# EAGLE library part MILLI-GRID-38 (library con-molex)
Milli-Grid Pin Header 2.00mm (.079") Pitch
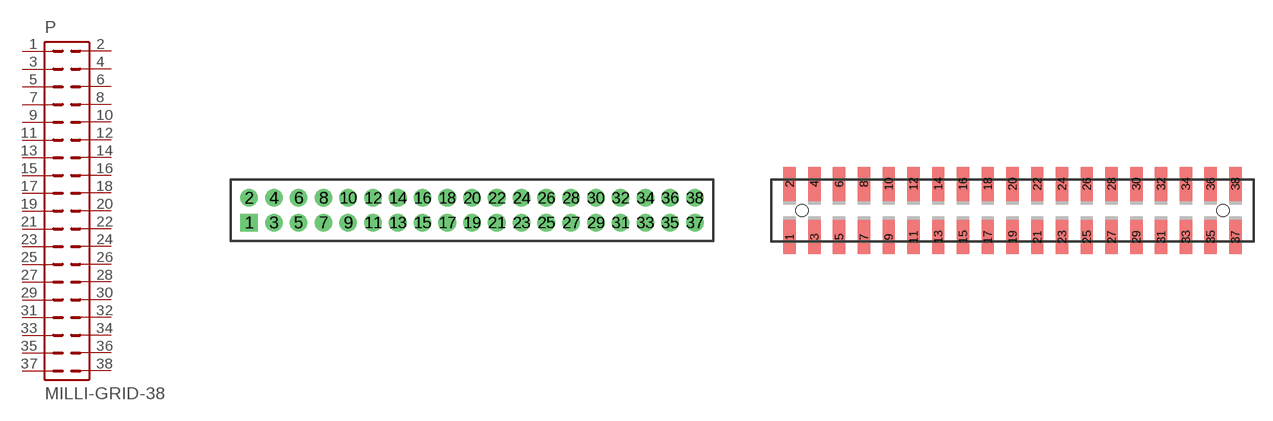
[diagram p67: symbol with the pads of 87758-38; footprints 87758-38, 87759-38]

Designator prefix P

## MILLI-GRID-38-87758  [87758-38]
1  1  pas
2  2  pas
3  3  pas
4  4  pas
5  5  pas
6  6  pas
7  7  pas
8  8  pas
9  9  pas
10  10  pas
11  11  pas
12  12  pas
13  13  pas
14  14  pas
15  15  pas
16  16  pas
17  17  pas
18  18  pas
19  19  pas
20  20  pas
21  21  pas
22  22  pas
23  23  pas
24  24  pas
25  25  pas
26  26  pas
27  27  pas
28  28  pas
29  29  pas
30  30  pas
31  31  pas
32  32  pas
33  33  pas
34  34  pas
35  35  pas
36  36  pas
37  37  pas
38  38  pas

## MILLI-GRID-38-87759  [87759-38]
Pads as for 87758-38

## MILLI-GRID-38-87264  [87264-38]
Pads as for 87758-38

## MILLI-GRID-38-87368  [87368-38]
Pads as for 87758-38

## Footprint 87758-38 (pad centres in mm)
PCB Pin Headers 2.00mm (.079") Pitch Milli-Grid Header, Vertical
drill 0.914 square: 1 -18,-1
drill 0.914: 2 -18,1; 3 -16,-1; 4 -16,1; 5 -14,-1; 6 -14,1; 7 -12,-1; 8 -12,1; 9 -10,-1; 10 -10,1; 11 -8,-1; 12 -8,1; 13 -6,-1; 14 -6,1; 15 -4,-1; 16 -4,1; 17 -2,-1; 18 -2,1; 19 0,-1; 20 0,1; 21 2,-1; 22 2,1; 23 4,-1; 24 4,1; 25 6,-1; 26 6,1; 27 8,-1; 28 8,1; 29 10,-1; 30 10,1; 31 12,-1; 32 12,1; 33 14,-1; 34 14,1; 35 16,-1; 36 16,1; 37 18,-1; 38 18,1

## Footprint 87759-38 (pad centres in mm)
PCB Pin Headers 2.00mm (.079") Pitch Milli-Grid Header, Vertical SMD
smd 1 x 2.75: 1 -18,-2.15; 2 -18,2.15; 3 -16,-2.15; 4 -16,2.15; 5 -14,-2.15; 6 -14,2.15; 7 -12,-2.15; 8 -12,2.15; 9 -10,-2.15; 10 -10,2.15; 11 -8,-2.15; 12 -8,2.15; 13 -6,-2.15; 14 -6,2.15; 15 -4,-2.15; 16 -4,2.15; 17 -2,-2.15; 18 -2,2.15; 19 0,-2.15; 20 0,2.15; 21 2,-2.15; 22 2,2.15; 23 4,-2.15; 24 4,2.15; 25 6,-2.15; 26 6,2.15; 27 8,-2.15; 28 8,2.15; 29 10,-2.15; 30 10,2.15; 31 12,-2.15; 32 12,2.15; 33 14,-2.15; 34 14,2.15; 35 16,-2.15; 36 16,2.15; 37 18,-2.15; 38 18,2.15
hole 1 at -17,0
hole 1 at 17,0

## Footprint 87264-38 (pad centres in mm)
Board-To-Board Receptacal 2.00mm (.079") Pitch Milli-Grid Header, Side Entry Mates with 2mm(.079") Mill-Grid Header
drill 0.914 square: 1 -18,-2.25
drill 0.914: 2 -18,2.25; 3 -16,-2.25; 4 -16,2.25; 5 -14,-2.25; 6 -14,2.25; 7 -12,-2.25; 8 -12,2.25; 9 -10,-2.25; 10 -10,2.25; 11 -8,-2.25; 12 -8,2.25; 13 -6,-2.25; 14 -6,2.25; 15 -4,-2.25; 16 -4,2.25; 17 -2,-2.25; 18 -2,2.25; 19 0,-2.25; 20 0,2.25; 21 2,-2.25; 22 2,2.25; 23 4,-2.25; 24 4,2.25; 25 6,-2.25; 26 6,2.25; 27 8,-2.25; 28 8,2.25; 29 10,-2.25; 30 10,2.25; 31 12,-2.25; 32 12,2.25; 33 14,-2.25; 34 14,2.25; 35 16,-2.25; 36 16,2.25; 37 18,-2.25; 38 18,2.25

## Footprint 87368-38 (pad centres in mm)
Board-To-Board Receptacal 2.00mm (.079") Pitch Milli-Grid Header, Side Entry SMD Mates with 2mm(.079") Mill-Grid Header
smd 1 x 2.8: 1 -18,-3.1; 2 -18,3.1; 3 -16,-3.1; 4 -16,3.1; 5 -14,-3.1; 6 -14,3.1; 7 -12,-3.1; 8 -12,3.1; 9 -10,-3.1; 10 -10,3.1; 11 -8,-3.1; 12 -8,3.1; 13 -6,-3.1; 14 -6,3.1; 15 -4,-3.1; 16 -4,3.1; 17 -2,-3.1; 18 -2,3.1; 19 0,-3.1; 20 0,3.1; 21 2,-3.1; 22 2,3.1; 23 4,-3.1; 24 4,3.1; 25 6,-3.1; 26 6,3.1; 27 8,-3.1; 28 8,3.1; 29 10,-3.1; 30 10,3.1; 31 12,-3.1; 32 12,3.1; 33 14,-3.1; 34 14,3.1; 35 16,-3.1; 36 16,3.1; 37 18,-3.1; 38 18,3.1
hole 0.914 at -18,0
hole 0.914 at 0,0